# Altium schematic symbol library ACSL-6400-00TE.SchLib: 1 symbol
Pins are listed as number, name and electrical type; pins without a type are passive.

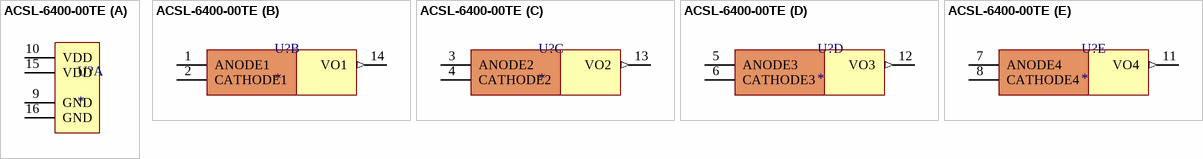
[diagram p0: symbol ACSL-6400-00TE]

## ACSL-6400-00TE
designator U?
AVAGO TECHNOLOGIES - ACSL-6400-00TE - OPTOCOUPLER, SMD, QUAD, HIGH SPEED; farnell: 9130152
footprint ACSL-6400-00TE (AVAGO TECHNOLOGIES - ACSL-6400-00TE - OPTOCOUPLER, SMD, QUAD, HIGH SPEED)
part A pins: 9 GND (power), 10 VDD (power), 15 VDD (power), 16 GND (power)
part B pins: 1 ANODE1, 2 CATHODE1, 14 VO1 (out)
part C pins: 3 ANODE2, 4 CATHODE2, 13 VO2 (out)
part D pins: 5 ANODE3, 6 CATHODE3, 12 VO3 (out)
part E pins: 7 ANODE4, 8 CATHODE4, 11 VO4 (out)